# EAGLE library part IGBT-2N (library ProjectFromKIKS)
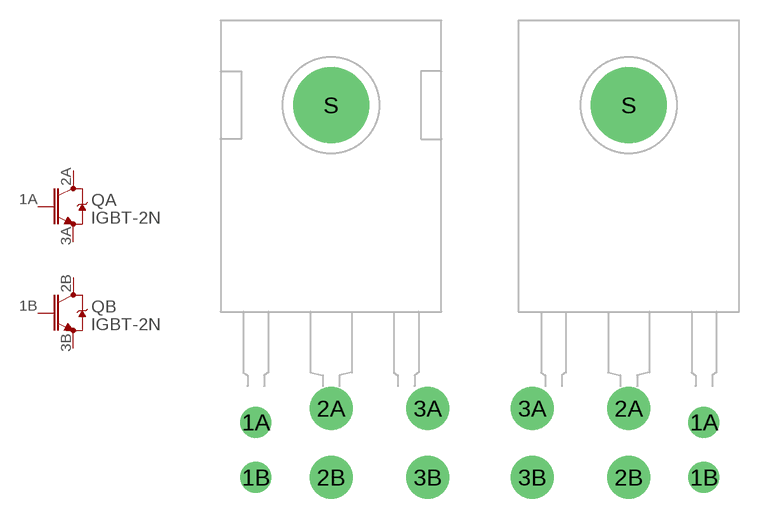
[diagram p2: symbol with the pads of TO-247AD_X2; footprints TO-247AD_X2, TO-247AD_X2-REV]

Designator prefix Q; gates A=IGBT-N B=IGBT-N

## IGBT-2N  [TO-247AD_X2]
1A  A:G  pas
1B  B:G  pas
2A  A:C  pas
2B  B:C  pas
3A  A:E  pas
3B  B:E  pas

## IGBT-2N-REV  [TO-247AD_X2-REV]
Pads as for TO-247AD_X2

## Footprint TO-247AD_X2 (pad centres in mm)
drill 1.5 pad 2.1: 1A -5.45,-8; 1B -5.45,-12
drill 2.1 pad 3: 2A 0,-7; 2B 0,-12; 3A 7,-7; 3B 7,-12
drill 3.3 pad 5.5: S 0,15

## Footprint TO-247AD_X2-REV (pad centres in mm)
drill 1.5 pad 2.1: 1A 5.45,-8; 1B 5.45,-12
drill 2.1 pad 3: 2A 0,-7; 2B 0,-12; 3A -7,-7; 3B -7,-12
drill 3.3 pad 5.5: S 0,15